# Altium schematic symbol library loom-side-panel.SchLib: 6 symbols
Pins are listed as number, name and electrical type; pins without a type are passive.

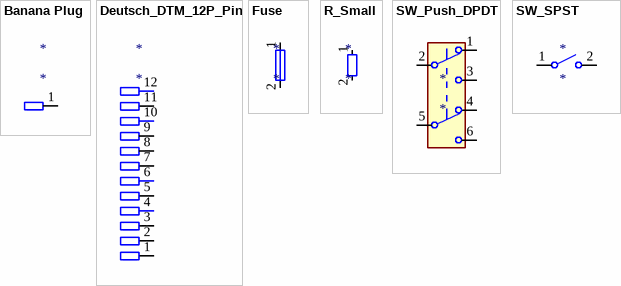
[diagram p0: symbols Banana Plug to SW_SPST]

## Banana Plug
designator *
pins: 1

## Deutsch_DTM_12P_Pin
designator *
pins: 1, 2, 3, 4, 5, 6, 7, 8, 9, 10, 11, 12

## Fuse
designator *
pins: 1, 2

## R_Small
designator *
pins: 1, 2

## SW_Push_DPDT
designator *
pins: 1 A, 2 B, 3 C, 4 A, 5 B, 6 C

## SW_SPST
designator *
pins: 1 A, 2 B